# Altium footprint library 接插件.PCBLIB: 113 footprints (part 5 of 8)
Each footprint in its own frame and in the unit in brackets; x right, y up, seen from the top. Pads: shape width x height; smd on the part's side, far side on the other; paste and mask are expansions set on the pad; w line width, h text height; cw(c..) or ccw(c..) is an arc to the next point about the centre after c.
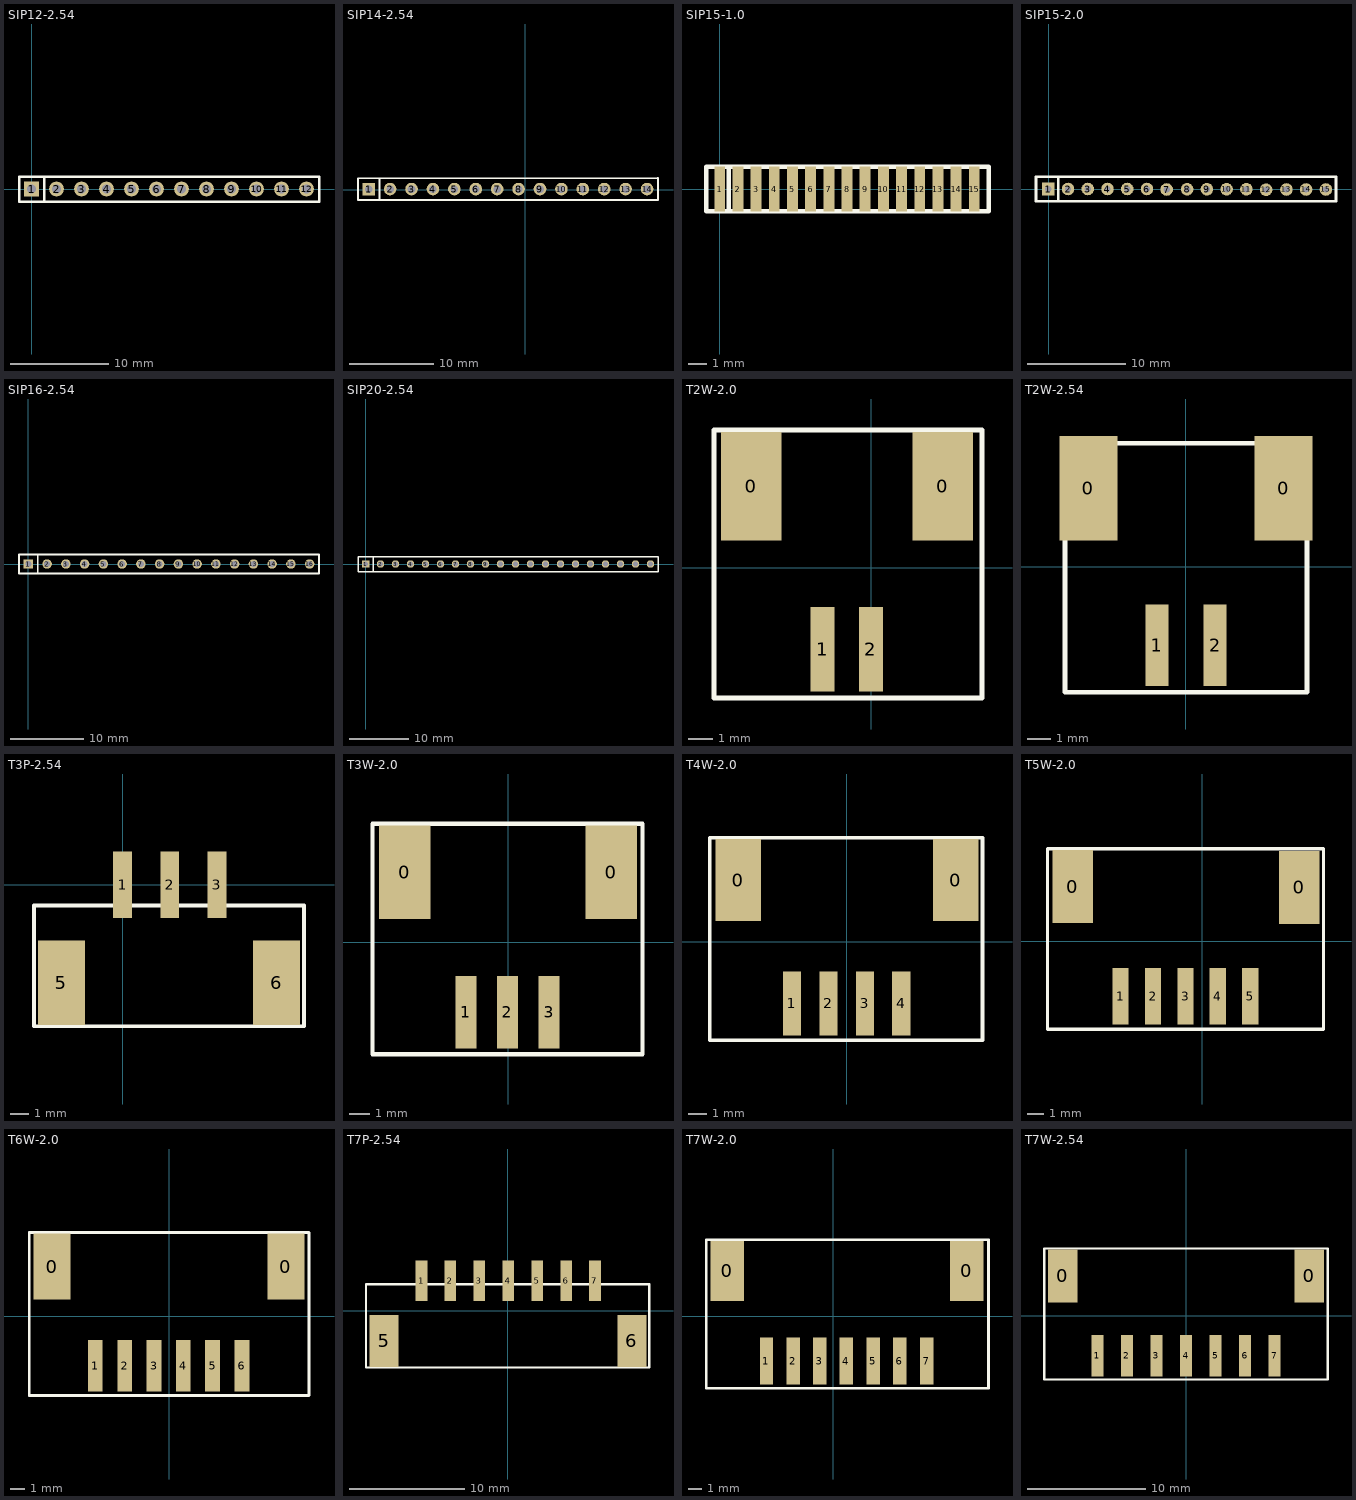
[diagram p4: the footprints below, top view; thin cyan lines are the x and y axes]

## SIP12-2.54 [mm]
pads (12):
  rect 1.5x1.5 hole 0.9: 1(0,0)
  round 1.5 hole 0.9: 2(2.54,0) 3(5.08,0) 4(7.62,0) 5(10.16,0) 6(12.7,0) 7(15.24,0) 8(17.78,0) 9(20.32,0) 10(22.86,0) 11(25.4,0) 12(27.94,0)
TopOverlay:
  lines w0.254: 1.27,-1.27 1.27,1.27 ; -1.27,-1.27 29.21,-1.27 29.21,1.27 -1.27,1.27 -1.27,-1.27

## SIP14-2.54 [mm]
pads (14):
  rect 1.5x1.5 hole 0.9: 1(-18.55,0.075)
  round 1.5 hole 0.9: 2(-16.01,0.075) 3(-13.47,0.075) 4(-10.93,0.075) 5(-8.39,0.075) 6(-5.85,0.075) 7(-3.31,0.075) 8(-0.77,0.075) 9(1.77,0.075) 10(4.31,0.075) 11(6.85,0.075) 12(9.39,0.075) 13(11.93,0.075) 14(14.47,0.075)
TopOverlay:
  lines w0.254: -17.28,-1.195 -17.28,1.345 ; 15.7,1.375 -19.82,1.345 -19.82,-1.195 15.75,-1.2 ; 15.77,-1.17 15.77,1.37

## SIP15-1.0 [mm]
pads (15):
  rect 0.6x2.5 smd: 1(0,0) 2(1,0) 3(2,0) 4(3,0) 5(4,0) 6(5,0) 7(6,0) 8(7,0) 9(8,0) 10(9,0) 11(10,0) 12(11,0) 13(12,0) 14(13,0) 15(14,0)
TopOverlay:
  lines w0.254: 0.5,-1.2 0.5,1.15 ; -0.75,-1.219 -0.75,1.219 14.8,1.219 14.8,-1.219 -0.75,-1.219

## SIP15-2.0 [mil]
pads (15):
  rect 50x50 hole 25: 1(-1,1)
  round 50 hole 25: 2(77.74,1) 3(156.48,1) 4(235.22,1) 5(313.96,1) 6(392.7,1) 7(471.44,-1) 8(553.13,0.02) 9(631.89,0) 10(710.61,0.02) 11(789.35,0.02) 12(868.09,-1.98) 13(948.8,-0.97) 14(1027.54,-0.97) 15(1106.28,-0.97)
TopOverlay:
  lines w10: 39,-47 39,49 ; 1145.67,49 -50,49 -50,-47 1146.86,-47 1146.86,48.98

## SIP16-2.54 [mil]
pads (16):
  rect 50x50 hole 32: 1(0,0)
  round 50 hole 32: 2(100,0) 3(200,0) 4(300,0) 5(400,0) 6(500,0) 7(600,0) 8(700,0) 9(800,0) 10(900,0) 11(1000,0) 12(1100,0) 13(1200,0) 14(1300,0) 15(1400,0) 16(1500,0)
TopOverlay:
  lines w10: 50,-50 50,50 ; -50,-50 1550,-50 1550,50 -50,50 -50,-50

## SIP20-2.54 [mil]
pads (20):
  rect 50x50 hole 32: 1(0,0)
  round 50 hole 32: 2(100,0) 3(200,0) 4(300,0) 5(400,0) 6(500,0) 7(600,0) 8(700,0) 9(800,0) 10(900,0) 11(1000,0) 12(1100,0) 13(1200,0) 14(1300,0) 15(1400,0) 16(1500,0) 17(1600,0) 18(1700,0) 19(1800,0) 20(1900,0)
TopOverlay:
  lines w10: 50,-50 50,50 ; -50,-50 1950,-50 1950,50 -50,50 -50,-50

## T2W-2.0 [mm]
height 2.54
pads (4):
  rect 2.5x4.5 smd: 0(-4.975,3.375) 0(2.95,3.375)
  rect 1x3.5 smd: 1(-2.025,-3.375) 2(-0.025,-3.375)
TopOverlay:
  lines w0.2: -6.525,-5.4 -6.525,5.7 4.575,5.7 4.575,-5.4 -6.525,-5.4

## T2W-2.54 [mm]
height 2.54
pads (4):
  rect 2.5x4.5 smd: 0(-4.2,3.375) 0(4.2,3.375)
  rect 1x3.5 smd: 1(-1.25,-3.375) 2(1.25,-3.375)
TopOverlay:
  lines w0.2: -5.2,-5.4 5.2,-5.4 5.2,5.3 -5.2,5.3 -5.2,-5.4

## T3P-2.54 [mm]
height 2.54
pads (5):
  rect 1x3.5 smd: 1(0,0) 2(2.5,0) 3(5,0)
  rect 2.5x4.5 smd: 5(-3.241,-5.196) 6(8.159,-5.196)
TopOverlay:
  lines w0.2: -4.691,-7.501 -4.691,-1.101 9.609,-1.101 9.609,-7.501 -4.691,-7.501

## T3W-2.0 [mm]
height 2.54
pads (5):
  rect 2.5x4.5 smd: 0(-4.975,3.375) 0(4.975,3.375)
  rect 1x3.5 smd: 1(-2.025,-3.375) 2(-0.025,-3.375) 3(1.975,-3.375)
TopOverlay:
  lines w0.2: -6.525,-5.4 -6.525,5.7 6.48,5.7 6.48,-5.4 -6.525,-5.4

## T4W-2.0 [mm]
height 2.54
pads (6):
  rect 2.5x4.5 smd: 0(-5.966,3.375) 0(5.966,3.375)
  rect 1x3.5 smd: 1(-3.016,-3.375) 2(-1.016,-3.375) 3(0.984,-3.375) 4(2.966,-3.375)
TopOverlay:
  lines w0.2: -7.516,-5.4 -7.516,5.7 7.418,5.7 7.418,-5.4 -7.516,-5.4

## T5W-2.0 [mm]
height 2.54
pads (7):
  rect 2.5x4.5 smd: 0(-7.966,3.375) 0(5.991,3.325)
  rect 1x3.5 smd: 1(-5.016,-3.375) 2(-3.016,-3.375) 3(-1.016,-3.375) 4(0.966,-3.375) 5(2.966,-3.375)
TopOverlay:
  lines w0.2: -9.516,-5.4 7.475,-5.4 7.475,5.7 -9.516,5.7 -9.516,-5.4

## T6W-2.0 [mm]
height 2.54
pads (8):
  rect 2.5x4.5 smd: 0(-7.966,3.375) 0(7.966,3.375)
  rect 1x3.5 smd: 1(-5.016,-3.375) 2(-3.016,-3.375) 3(-1.016,-3.375) 4(0.966,-3.375) 5(2.966,-3.375) 6(4.966,-3.375)
TopOverlay:
  lines w0.2: -9.516,-5.4 -9.516,5.7 9.538,5.7 9.538,-5.4 -9.516,-5.4

## T7P-2.54 [mm]
height 2.54
pads (9):
  rect 1x3.5 smd: 1(-7.479,2.598) 2(-4.979,2.598) 3(-2.479,2.598) 4(0.021,2.598) 5(2.521,2.598) 6(5.021,2.598) 7(7.521,2.598)
  rect 2.5x4.5 smd: 5(-10.72,-2.598) 6(10.721,-2.598)
TopOverlay:
  lines w0.2: -12.279,-4.903 -12.279,2.298 12.221,2.298 12.221,-4.903 -12.279,-4.903

## T7W-2.0 [mm]
height 2.54
pads (9):
  rect 2.5x4.5 smd: 0(-7.966,3.375) 0(9.991,3.375)
  rect 1x3.5 smd: 1(-5.016,-3.375) 2(-3.016,-3.375) 3(-1.016,-3.375) 4(0.966,-3.375) 5(2.966,-3.375) 6(4.966,-3.375) 7(6.991,-3.375)
TopOverlay:
  lines w0.2: -9.516,-5.4 -9.516,5.7 11.6,5.7 11.6,-5.4 -9.516,-5.4

## T7W-2.54 [mm]
height 2.54
pads (9):
  rect 2.5x4.5 smd: 0(-10.45,3.375) 0(10.45,3.375)
  rect 1x3.5 smd: 1(-7.5,-3.375) 2(-5,-3.375) 3(-2.5,-3.375) 4(0,-3.375) 5(2.5,-3.375) 6(5,-3.375) 7(7.5,-3.375)
TopOverlay:
  lines w0.2: -12,-5.4 -12,5.7 12,5.7 12,-5.4 -12,-5.4